# EAGLE library part USB_MICROB_CONNECTOR (library graftel-internal-ic)
https://www.digikey.com/products/en?keywords=609-4613-1-ND
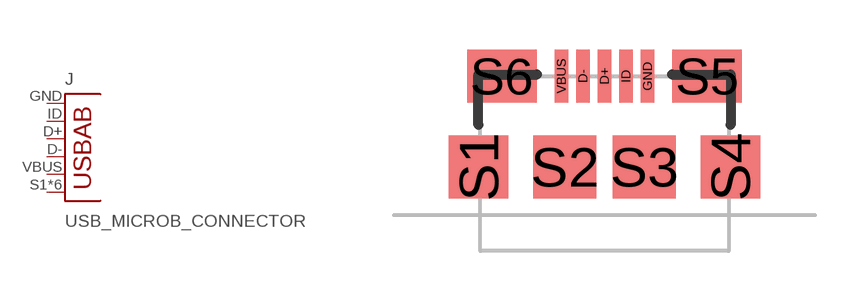
[diagram p23: symbol with the pads of USB-AB-MICRO-SMD-DIGI; footprint USB-AB-MICRO-SMD-DIGI]

Designator prefix J

## USB_MICROB_CONNECTOR (PARTNO: 609-4613-1-ND)  [USB-AB-MICRO-SMD-DIGI]
D+  D+
D-  D-
GND  GND
ID  USBID
S1  SHIELD
S2  SHIELD
S3  SHIELD
S4  SHIELD
S5  SHIELD
S6  SHIELD
VBUS  VBUS

## Footprint USB-AB-MICRO-SMD-DIGI (pad centres in mm)
smd 0.4 x 1.6: D+ 0,2.75; D- -0.65,2.75; GND 1.3,2.75; ID 0.65,2.75; VBUS -1.3,2.75
smd 1.8 x 1.9: S1 -3.8,0; S4 3.8,0
smd 1.9 x 1.9: S2 -1.2,0; S3 1.2,0
smd 2.1 x 1.6: S5 3.1,2.75; S6 -3.1,2.75